# Altium footprint library LDM13488MI.PcbLib: 1 footprints
Each footprint in its own frame and in the unit in brackets; x right, y up, seen from the top. Pads: shape width x height; smd on the part's side, far side on the other; paste and mask are expansions set on the pad; w line width, h text height; cw(c..) or ccw(c..) is an arc to the next point about the centre after c.
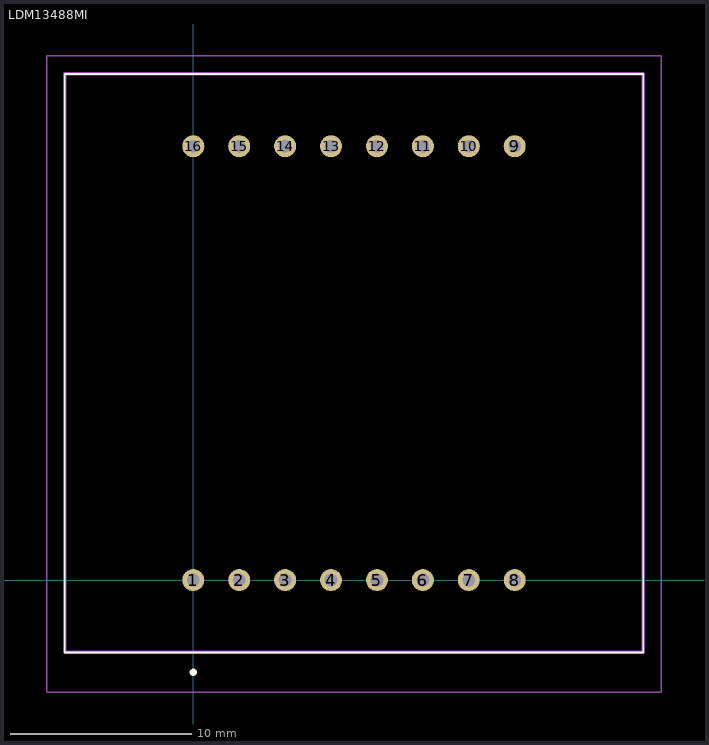
[diagram p0: the footprint, top view; thin cyan lines are the x and y axes]

## LDM13488MI [mm]
pads (16):
  round 1.217 hole 0.71: 1(0,0) 2(2.54,0) 3(5.08,0) 4(7.62,0) 5(10.16,0) 6(12.7,0) 7(15.24,0) 8(17.78,0) 9(17.78,24) 10(15.24,24) 11(12.7,24) 12(10.16,24) 13(7.62,24) 14(5.08,24) 15(2.54,24) 16(0,24)
Top Overlay:
  lines w0.1: -7.11,-4 24.89,-4 24.89,28 -7.11,28 -7.11,-4
  lines w0.2: 0,-5.2 cw(c0,-5.1) 0,-5 ; 0,-5.2 0,-5.2 ; 0,-5.2 ccw(c0,-5.1) 0,-5 ; 0,-5 0,-5
Mechanical 15:
  lines w0.2: -7.11,-4 24.89,-4 24.89,28 -7.11,28 -7.11,-4
Mechanical 20:
  lines w0.1: -8.11,-6.2 25.89,-6.2 25.89,29 -8.11,29 -8.11,-6.2